# EAGLE library part FPC1020AM (library FPC1020)
FPC1020AM Fingerprint Sensor flexible cable Connector: Hirose Part Number: BM10NB(0.8)-16DS-0.4V(51)
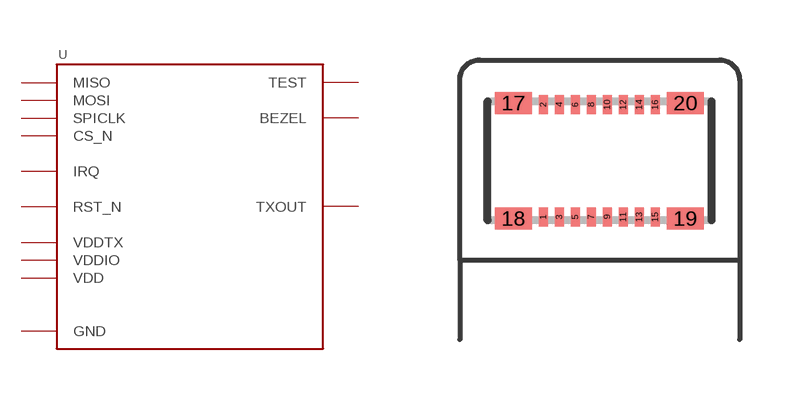
[diagram p0: symbol with the pads of FPC1020AM; footprint FPC1020AM]

Designator prefix -

## FPC1020AM  [FPC1020AM]
1  TXOUT  out
2  BEZEL
3  GND  pwr
4  GND  pwr
5  VDD  pwr
6  VDDTX  pwr
7  VDDIO  pwr
8  IRQ  out
9  TEST
10  RST_N  in
11  MISO
12  CS_N  in
13  GND  pwr
14  GND  pwr
15  MOSI
16  SPICLK  in
17  GND  pwr
18  GND  pwr
19  GND  pwr
20  GND  pwr

## Footprint FPC1020AM (pad centres in mm)
FCP1020AM Fingerprint Sensor flexible cable connector Connector Hirose Part Number BM10NB(0.8)-16DS-0.4V(51)
smd 0.23 x 0.47: 1 2.094,-3.929; 2 2.094,-1.119; 3 2.494,-3.929; 4 2.494,-1.119; 5 2.894,-3.929; 6 2.894,-1.119; 7 3.294,-3.929; 8 3.294,-1.119; 9 3.694,-3.929; 10 3.694,-1.119; 11 4.094,-3.929; 12 4.094,-1.119; 13 4.494,-3.929; 14 4.494,-1.119; 15 4.894,-3.929; 16 4.894,-1.119
smd 0.92 x 0.55: 17 1.344,-1.079; 18 1.344,-3.969; 19 5.644,-3.969; 20 5.644,-1.079